# Altium schematic symbol library BME280.SCHLIB: 1 symbol
Pins are listed as number, name and electrical type; pins without a type are passive.

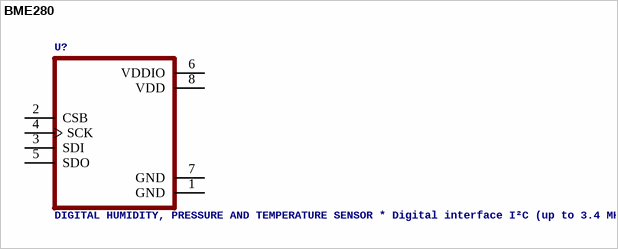
[diagram p0: symbol BME280]

## BME280
designator U?, comment DIGITAL HUMIDITY, PRESSURE AND TEMPERATURE SENSOR * Digital interface I²C (up to 3.4 MHz) and SPI (3 and 4 wire, up to 10 MHz)* Supply voltage VDD main supply voltage range: 1.71 V to 3.6 V*VDDIO interface voltage range: 1.2 V to 3.6 V Operating range -40…+85 °C, 0…100 % rel. humidity, 300…1100 hPa   The library has been designed by Richard Magdycz Check availability
GateName_1: G$1; SymbolName_1: BME280; MF: Bosch; LibraryName: BME280; DeviceSetName: BME280; MP: BME280; Purchase-URL: https://pricing.snapeda.com/search/part/BME280/?ref=eda; Price: None; Package: LGA-8 Bosch; Availability: In Stock
footprint PSON65P250X250X100-8N
pins: 1 GND (power), 2 CSB, 3 SDI, 4 SCK, 5 SDO, 6 VDDIO (power), 7 GND (power), 8 VDD (power)